# EAGLE library part MSP430FR4133IPMR (library MSP430FR4133IPM)
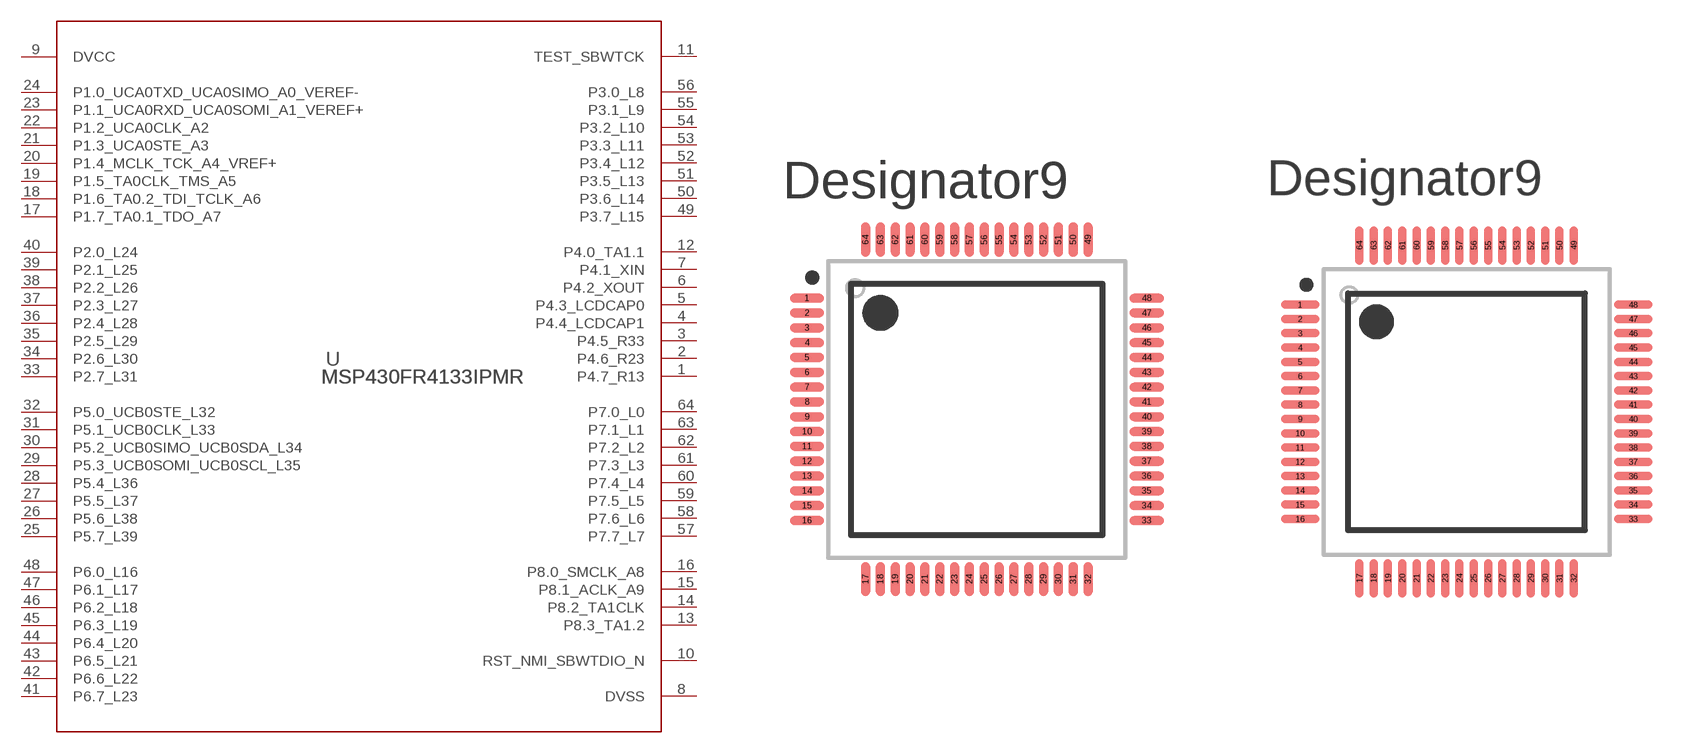
[diagram p0: symbol with the pads of PM0064A_N; footprints PM0064A_N, PM0064A_M]

Designator prefix U

## MSP430FR4133IPMR  [PM0064A_N]
1  P4.7_R13
2  P4.6_R23
3  P4.5_R33
4  P4.4_LCDCAP1
5  P4.3_LCDCAP0
6  P4.2_XOUT
7  P4.1_XIN
8  DVSS  pwr
9  DVCC  pwr
10  RST_NMI_SBWTDIO_N  in
11  TEST_SBWTCK  in
12  P4.0_TA1.1
13  P8.3_TA1.2
14  P8.2_TA1CLK
15  P8.1_ACLK_A9
16  P8.0_SMCLK_A8
17  P1.7_TA0.1_TDO_A7
18  P1.6_TA0.2_TDI_TCLK_A6
19  P1.5_TA0CLK_TMS_A5
20  P1.4_MCLK_TCK_A4_VREF+
21  P1.3_UCA0STE_A3
22  P1.2_UCA0CLK_A2
23  P1.1_UCA0RXD_UCA0SOMI_A1_VEREF+
24  P1.0_UCA0TXD_UCA0SIMO_A0_VEREF-
25  P5.7_L39
26  P5.6_L38
27  P5.5_L37
28  P5.4_L36
29  P5.3_UCB0SOMI_UCB0SCL_L35
30  P5.2_UCB0SIMO_UCB0SDA_L34
31  P5.1_UCB0CLK_L33
32  P5.0_UCB0STE_L32
33  P2.7_L31
34  P2.6_L30
35  P2.5_L29
36  P2.4_L28
37  P2.3_L27
38  P2.2_L26
39  P2.1_L25
40  P2.0_L24
41  P6.7_L23
42  P6.6_L22
43  P6.5_L21
44  P6.4_L20
45  P6.3_L19
46  P6.2_L18
47  P6.1_L17
48  P6.0_L16
49  P3.7_L15
50  P3.6_L14
51  P3.5_L13
52  P3.4_L12
53  P3.3_L11
54  P3.2_L10
55  P3.1_L9
56  P3.0_L8
57  P7.7_L7
58  P7.6_L6
59  P7.5_L5
60  P7.4_L4
61  P7.3_L3
62  P7.2_L2
63  P7.1_L1
64  P7.0_L0

## MSP430FR4133IPMRPM0064A_M  [PM0064A_M]
Pads as for PM0064A_N

## MSP430FR4133IPMRPM0064A_L  [PM0064A_L]
Pads as for PM0064A_N

## Footprint PM0064A_N (pad centres in mm)
smd 1.15 x 0.3: 1 -5.725,3.75; 2 -5.725,3.25; 3 -5.725,2.75; 4 -5.725,2.25; 5 -5.725,1.75; 6 -5.725,1.25; 7 -5.725,0.75; 8 -5.725,0.25; 9 -5.725,-0.25; 10 -5.725,-0.75; 11 -5.725,-1.25; 12 -5.725,-1.75; 13 -5.725,-2.25; 14 -5.725,-2.75; 15 -5.725,-3.25; 16 -5.725,-3.75; 33 5.725,-3.75; 34 5.725,-3.25; 35 5.725,-2.75; 36 5.725,-2.25; 37 5.725,-1.75; 38 5.725,-1.25; 39 5.725,-0.75; 40 5.725,-0.25; 41 5.725,0.25; 42 5.725,0.75; 43 5.725,1.25; 44 5.725,1.75; 45 5.725,2.25; 46 5.725,2.75; 47 5.725,3.25; 48 5.725,3.75
smd 0.3 x 1.15: 17 -3.75,-5.725; 18 -3.25,-5.725; 19 -2.75,-5.725; 20 -2.25,-5.725; 21 -1.75,-5.725; 22 -1.25,-5.725; 23 -0.75,-5.725; 24 -0.25,-5.725; 25 0.25,-5.725; 26 0.75,-5.725; 27 1.25,-5.725; 28 1.75,-5.725; 29 2.25,-5.725; 30 2.75,-5.725; 31 3.25,-5.725; 32 3.75,-5.725; 49 3.75,5.725; 50 3.25,5.725; 51 2.75,5.725; 52 2.25,5.725; 53 1.75,5.725; 54 1.25,5.725; 55 0.75,5.725; 56 0.25,5.725; 57 -0.25,5.725; 58 -0.75,5.725; 59 -1.25,5.725; 60 -1.75,5.725; 61 -2.25,5.725; 62 -2.75,5.725; 63 -3.25,5.725; 64 -3.75,5.725

## Footprint PM0064A_M (pad centres in mm)
smd 1.35 x 0.3: 1 -5.825,3.75; 2 -5.825,3.25; 3 -5.825,2.75; 4 -5.825,2.25; 5 -5.825,1.75; 6 -5.825,1.25; 7 -5.825,0.75; 8 -5.825,0.25; 9 -5.825,-0.25; 10 -5.825,-0.75; 11 -5.825,-1.25; 12 -5.825,-1.75; 13 -5.825,-2.25; 14 -5.825,-2.75; 15 -5.825,-3.25; 16 -5.825,-3.75; 33 5.825,-3.75; 34 5.825,-3.25; 35 5.825,-2.75; 36 5.825,-2.25; 37 5.825,-1.75; 38 5.825,-1.25; 39 5.825,-0.75; 40 5.825,-0.25; 41 5.825,0.25; 42 5.825,0.75; 43 5.825,1.25; 44 5.825,1.75; 45 5.825,2.25; 46 5.825,2.75; 47 5.825,3.25; 48 5.825,3.75
smd 0.3 x 1.35: 17 -3.75,-5.825; 18 -3.25,-5.825; 19 -2.75,-5.825; 20 -2.25,-5.825; 21 -1.75,-5.825; 22 -1.25,-5.825; 23 -0.75,-5.825; 24 -0.25,-5.825; 25 0.25,-5.825; 26 0.75,-5.825; 27 1.25,-5.825; 28 1.75,-5.825; 29 2.25,-5.825; 30 2.75,-5.825; 31 3.25,-5.825; 32 3.75,-5.825; 49 3.75,5.825; 50 3.25,5.825; 51 2.75,5.825; 52 2.25,5.825; 53 1.75,5.825; 54 1.25,5.825; 55 0.75,5.825; 56 0.25,5.825; 57 -0.25,5.825; 58 -0.75,5.825; 59 -1.25,5.825; 60 -1.75,5.825; 61 -2.25,5.825; 62 -2.75,5.825; 63 -3.25,5.825; 64 -3.75,5.825

## Footprint PM0064A_L (pad centres in mm)
smd 1 x 0.25: 1 -5.625,3.75; 2 -5.625,3.25; 3 -5.625,2.75; 4 -5.625,2.25; 5 -5.625,1.75; 6 -5.625,1.25; 7 -5.625,0.75; 8 -5.625,0.25; 9 -5.625,-0.25; 10 -5.625,-0.75; 11 -5.625,-1.25; 12 -5.625,-1.75; 13 -5.625,-2.25; 14 -5.625,-2.75; 15 -5.625,-3.25; 16 -5.625,-3.75; 33 5.625,-3.75; 34 5.625,-3.25; 35 5.625,-2.75; 36 5.625,-2.25; 37 5.625,-1.75; 38 5.625,-1.25; 39 5.625,-0.75; 40 5.625,-0.25; 41 5.625,0.25; 42 5.625,0.75; 43 5.625,1.25; 44 5.625,1.75; 45 5.625,2.25; 46 5.625,2.75; 47 5.625,3.25; 48 5.625,3.75
smd 0.25 x 1: 17 -3.75,-5.625; 18 -3.25,-5.625; 19 -2.75,-5.625; 20 -2.25,-5.625; 21 -1.75,-5.625; 22 -1.25,-5.625; 23 -0.75,-5.625; 24 -0.25,-5.625; 25 0.25,-5.625; 26 0.75,-5.625; 27 1.25,-5.625; 28 1.75,-5.625; 29 2.25,-5.625; 30 2.75,-5.625; 31 3.25,-5.625; 32 3.75,-5.625; 49 3.75,5.625; 50 3.25,5.625; 51 2.75,5.625; 52 2.25,5.625; 53 1.75,5.625; 54 1.25,5.625; 55 0.75,5.625; 56 0.25,5.625; 57 -0.25,5.625; 58 -0.75,5.625; 59 -1.25,5.625; 60 -1.75,5.625; 61 -2.25,5.625; 62 -2.75,5.625; 63 -3.25,5.625; 64 -3.75,5.625